# Altium schematic symbol library Cap_AVX_F950J476MPAAQ2_eec.SchLib: 1 symbol
Pins are listed as number, name and electrical type; pins without a type are passive.

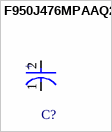
[diagram p0: symbol F950J476MPAAQ2]

## F950J476MPAAQ2
designator C?  (value not drawn)
pins: 1 C, 2 A
text: +